# Altium footprint library Acoustic.PcbLib: 4 footprints
Each footprint in its own frame and in the unit in brackets; x right, y up, seen from the top. Pads: shape width x height; smd on the part's side, far side on the other; paste and mask are expansions set on the pad; w line width, h text height; cw(c..) or ccw(c..) is an arc to the next point about the centre after c.
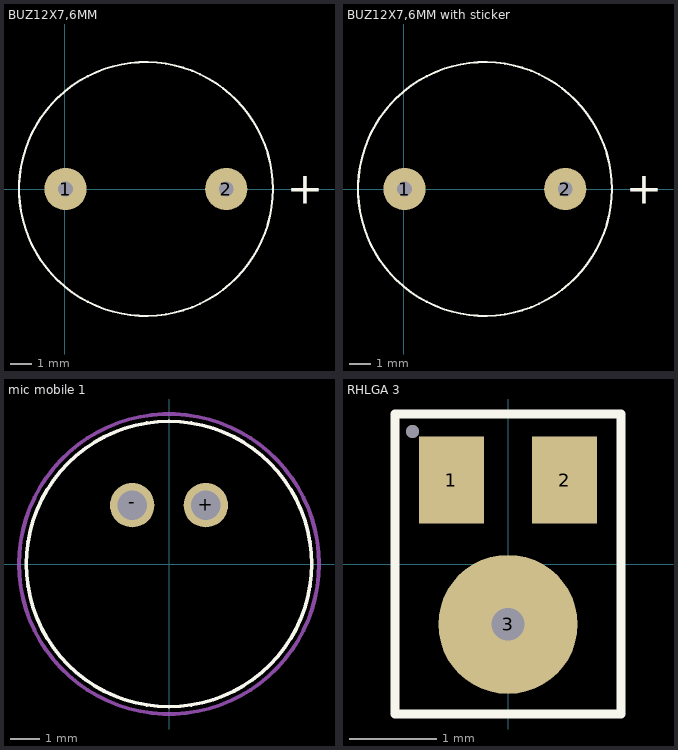
[diagram p0: the footprints below, top view; thin cyan lines are the x and y axes]

## BUZ12X7,6MM [mm]
height 4
pads (2):
  round 2 hole 0.7: 1(0.04,0) 2(7.64,0)
Top Overlay:
  circle w0.1: c3.84,0 r6
  text "+" at 10.5,-0.7 h1.52
3D body "buzzer 1203UX (1).STEP": height 9.51, standoff -1.99, extent -2.159,-6 9.841,6

## BUZ12X7,6MM with sticker [mm]
height 4
pads (2):
  round 2 hole 0.7: 1(0.04,0) 2(7.64,0)
Top Overlay:
  circle w0.1: c3.84,0 r6
  text "+" at 10.5,-0.7 h1.52
3D body "SW3dPS-WST-1203UX.STEP": height 9.75, standoff -4.4, extent -2.2,-6 13.254,6

## mic mobile 1 [mm]
pads (2):
  round 1.508 hole 1 mask-25.4: +(1.25,2) -(-1.25,2)
Top Overlay:
  circle w0.127: c0,0 r4.85
Top Solder:
  region: 1.25,2.861 1.027,2.832 0.819,2.746 0.641,2.609 0.504,2.431 0.418,2.223 0.389,2 0.418,1.777 0.504,1.569 0.641,1.391 0.819,1.254 1.027,1.168 1.25,1.139 1.473,1.168 1.681,1.254 1.859,1.391 1.996,1.569 2.082,1.777 2.111,2 2.082,2.223 1.996,2.431 1.859,2.609 1.681,2.746 1.473,2.832
  region: -1.25,2.861 -1.473,2.832 -1.681,2.746 -1.859,2.609 -1.996,2.431 -2.082,2.223 -2.111,2 -2.082,1.777 -1.996,1.569 -1.859,1.391 -1.681,1.254 -1.473,1.168 -1.25,1.139 -1.027,1.168 -0.819,1.254 -0.641,1.391 -0.504,1.569 -0.418,1.777 -0.389,2 -0.418,2.223 -0.504,2.431 -0.641,2.609 -0.819,2.746 -1.027,2.832
Bottom Solder:
  region: 1.25,2.861 1.027,2.832 0.819,2.746 0.641,2.609 0.504,2.431 0.418,2.223 0.389,2 0.418,1.777 0.504,1.569 0.641,1.391 0.819,1.254 1.027,1.168 1.25,1.139 1.473,1.168 1.681,1.254 1.859,1.391 1.996,1.569 2.082,1.777 2.111,2 2.082,2.223 1.996,2.431 1.859,2.609 1.681,2.746 1.473,2.832
  region: -1.25,2.861 -1.473,2.832 -1.681,2.746 -1.859,2.609 -1.996,2.431 -2.082,2.223 -2.111,2 -2.082,1.777 -1.996,1.569 -1.859,1.391 -1.681,1.254 -1.473,1.168 -1.25,1.139 -1.027,1.168 -0.819,1.254 -0.641,1.391 -0.504,1.569 -0.418,1.777 -0.389,2 -0.418,2.223 -0.504,2.431 -0.641,2.609 -0.819,2.746 -1.027,2.832
Mechanical 1:
  circle w0.127: c0,0 r5.1

## RHLGA 3 [mm]
pads (3):
  rect 0.75x1 smd: 1(-0.65,0.965) 2(0.65,0.965)
  round 1.6 hole 0.375: 3(0,-0.695)
via -1.1,1.525 diameter 0.15 hole 0.15
Top Overlay:
  lines w0.1: -1.3,-1.725 -1.3,0 -1.3,1.725 1.3,1.725 1.3,0 1.3,-1.725 -1.3,-1.725